# EAGLE library part F405_WEACT (library WeACT)
F405_WEACT
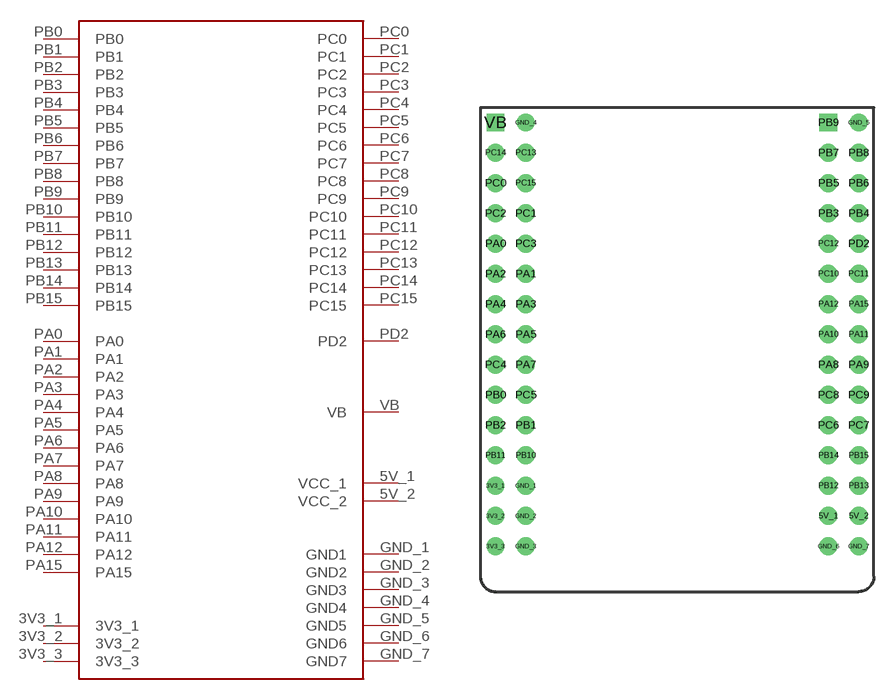
[diagram p0: symbol with the pads of F405_WEACT; footprint F405_WEACT]

Designator prefix U?

## F405_WEACT  [F405_WEACT]
3V3_1  3V3_1
3V3_2  3V3_2
3V3_3  3V3_3
5V_1  VCC_1
5V_2  VCC_2
GND_1  GND1
GND_2  GND2
GND_3  GND3
GND_4  GND4
GND_5  GND5
GND_6  GND6
GND_7  GND7
PA0  PA0
PA1  PA1
PA2  PA2
PA3  PA3
PA4  PA4
PA5  PA5
PA6  PA6
PA7  PA7
PA8  PA8
PA9  PA9
PA10  PA10
PA11  PA11
PA12  PA12
PA15  PA15
PB0  PB0
PB1  PB1
PB2  PB2
PB3  PB3
PB4  PB4
PB5  PB5
PB6  PB6
PB7  PB7
PB8  PB8
PB9  PB9
PB10  PB10
PB11  PB11
PB12  PB12
PB13  PB13
PB14  PB14
PB15  PB15
PC0  PC0
PC1  PC1
PC2  PC2
PC3  PC3
PC4  PC4
PC5  PC5
PC6  PC6
PC7  PC7
PC8  PC8
PC9  PC9
PC10  PC10
PC11  PC11
PC12  PC12
PC13  PC13
PC14  PC14
PC15  PC15
PD2  PD2
VB  VB

## Footprint F405_WEACT (pad centres in mm)
STM32F405-WEACT
drill 1: 3V3_1 -7.62,-25.4; 3V3_2 -7.62,-27.94; 3V3_3 -7.62,-30.48; 5V_1 20.32,-27.94; 5V_2 22.86,-27.94; GND_1 -5.08,-25.4; GND_2 -5.08,-27.94; GND_3 -5.08,-30.48; GND_4 -5.08,5.08; GND_5 22.86,5.08; GND_6 20.32,-30.48; GND_7 22.86,-30.48; PA0 -7.62,-5.08; PA1 -5.08,-7.62; PA2 -7.62,-7.62; PA3 -5.08,-10.16; PA4 -7.62,-10.16; PA5 -5.08,-12.7; PA6 -7.62,-12.7; PA7 -5.08,-15.24; PA8 20.32,-15.24; PA9 22.86,-15.24; PA10 20.32,-12.7; PA11 22.86,-12.7; PA12 20.32,-10.16; PA15 22.86,-10.16; PB0 -7.62,-17.78; PB1 -5.08,-20.32; PB2 -7.62,-20.32; PB3 20.32,-2.54; PB4 22.86,-2.54; PB5 20.32,0; PB6 22.86,0; PB7 20.32,2.54; PB8 22.86,2.54; PB10 -5.08,-22.86; PB11 -7.62,-22.86; PB12 20.32,-25.4; PB13 22.86,-25.4; PB14 20.32,-22.86; PB15 22.86,-22.86; PC0 -7.62,0; PC1 -5.08,-2.54; PC2 -7.62,-2.54; PC3 -5.08,-5.08; PC4 -7.62,-15.24; PC5 -5.08,-17.78; PC6 20.32,-20.32; PC7 22.86,-20.32; PC8 20.32,-17.78; PC9 22.86,-17.78; PC10 20.32,-7.62; PC11 22.86,-7.62; PC12 20.32,-5.08; PC13 -5.08,2.54; PC14 -7.62,2.54; PC15 -5.08,0; PD2 22.86,-5.08
drill 1 square: PB9 20.32,5.08; VB -7.62,5.08